# Altium integrated library MPSA42.IntLib: 1 symbol
Pins are listed as number, name and electrical type; pins without a type are passive.

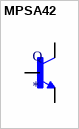
[diagram p0: symbol MPSA42]

## MPSA42
designator Q
Bipolar _BJT_ Transistor NPN 300V 500mA 50MHz 625mW Through Hole TO-92-3; MP: MPSA42; MF: ON Semiconductor; Package: TO-92 Multicomp; Availability: Unavailable; Value: *; SnapEDA_Link: https://www.snapeda.com/parts/MPSA42/ON%20Semiconductor/view-part/1700309/?ref=snap; Price: None
footprint TO92
pins: 1 C, 2 B, 3 E